# EAGLE library part TPS2121RUXR (library TPS2121RUXR)
2.7-22V, 56m, 4.5A, Priority Power MUX with Seamless Switchover Source: Datasheet <https://www.ti.com/lit/gpn/TPS2121>
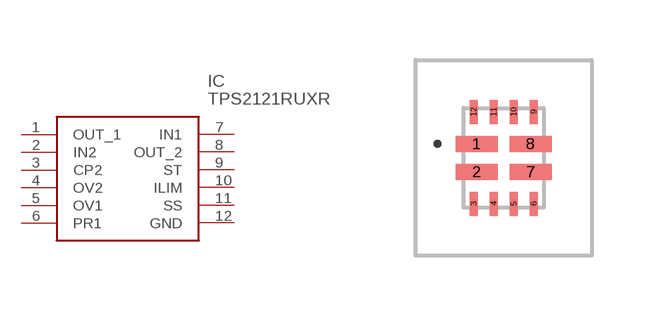
[diagram p0: symbol with the pads of TPS2121RUXR; footprint TPS2121RUXR]

Designator prefix IC

## TPS2121RUXR (Description: 2.7-22V, 56m, 4.5A, Priority Power MUX with Seamless Switchover; Height: 1mm; Manufacturer_Name: Texas Instruments; Manufacturer_Part_Number: TPS2121RUXR; Mouser_Part_Number: 595-TPS2121RUXR; Mouser_Price-Stock: https://www.mouser.co.uk/ProductDetail/Texas-Instruments/TPS2121RUXR?qs=qSfuJ%252Bfl%2Fd7dCYiVnUfngQ%3D%3D)  [TPS2121RUXR]
1  OUT_1
2  IN2
3  CP2
4  OV2
5  OV1
6  PR1
7  IN1
8  OUT_2
9  ST
10  ILIM
11  SS
12  GND

## Footprint TPS2121RUXR (pad centres in mm)
TPS2121RUXR-3
smd 1.05 x 0.4: 1 -0.675,0.35; 2 -0.675,-0.35; 7 0.675,-0.35; 8 0.675,0.35
smd 0.2 x 0.6: 3 -0.75,-1.15; 4 -0.25,-1.15; 5 0.25,-1.15; 6 0.75,-1.15; 9 0.75,1.15; 10 0.25,1.15; 11 -0.25,1.15; 12 -0.75,1.15